# Altium footprint library RHDRRA2W95P0X500_1X2_1120X900X1280P.PcbLib: 1 footprints
Each footprint in its own frame and in the unit in brackets; x right, y up, seen from the top. Pads: shape width x height; smd on the part's side, far side on the other; paste and mask are expansions set on the pad; w line width, h text height; cw(c..) or ccw(c..) is an arc to the next point about the centre after c.
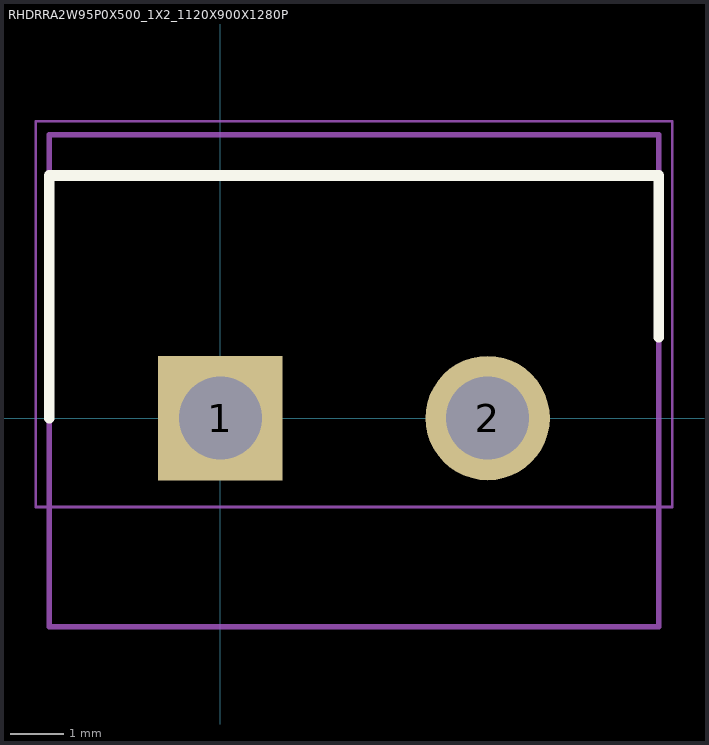
[diagram p0: the footprint, top view; thin cyan lines are the x and y axes]

## RHDRRA2W95P0X500_1X2_1120X900X1280P [mm]
pads (2):
  rect 2.325x2.325 / inner round 2.325 / far side rect 2.325x2.325 hole 1.55: 1(0,0)
  round 2.325 hole 1.55: 2(5,0)
Top Overlay:
  lines w0.2: -3.2,0 -3.2,4.538 8.2,4.538 8.2,1.512
Mechanical 15:
  lines w0.1: -3.2,-3.9 8.2,-3.9 8.2,5.3 -3.2,5.3 -3.2,-3.9
Mechanical 20:
  lines w0.05: -3.45,-1.662 -3.45,5.55 8.45,5.55 8.45,-1.662 -3.45,-1.662